# Altium schematic symbol library SI7145DP.Schlib: 1 symbol
Pins are listed as number, name and electrical type; pins without a type are passive.

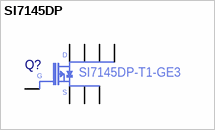
[diagram p0: symbol SI7145DP]

## SI7145DP
designator Q?  Manufacturer Part Number: SI7145DP-T1-GE3  (hidden comment: SI7145DP)
pins: 1 S, 2 S, 3 S, 4 G, 5 D, 6 D, 7 D, 8 D